# Altium footprint library con-3m.PCBLIB: 62 footprints (part 3 of 6)
Each footprint in its own frame and in the unit in brackets; x right, y up, seen from the top. Pads: shape width x height; smd on the part's side, far side on the other; paste and mask are expansions set on the pad; w line width, h text height; cw(c..) or ccw(c..) is an arc to the next point about the centre after c.
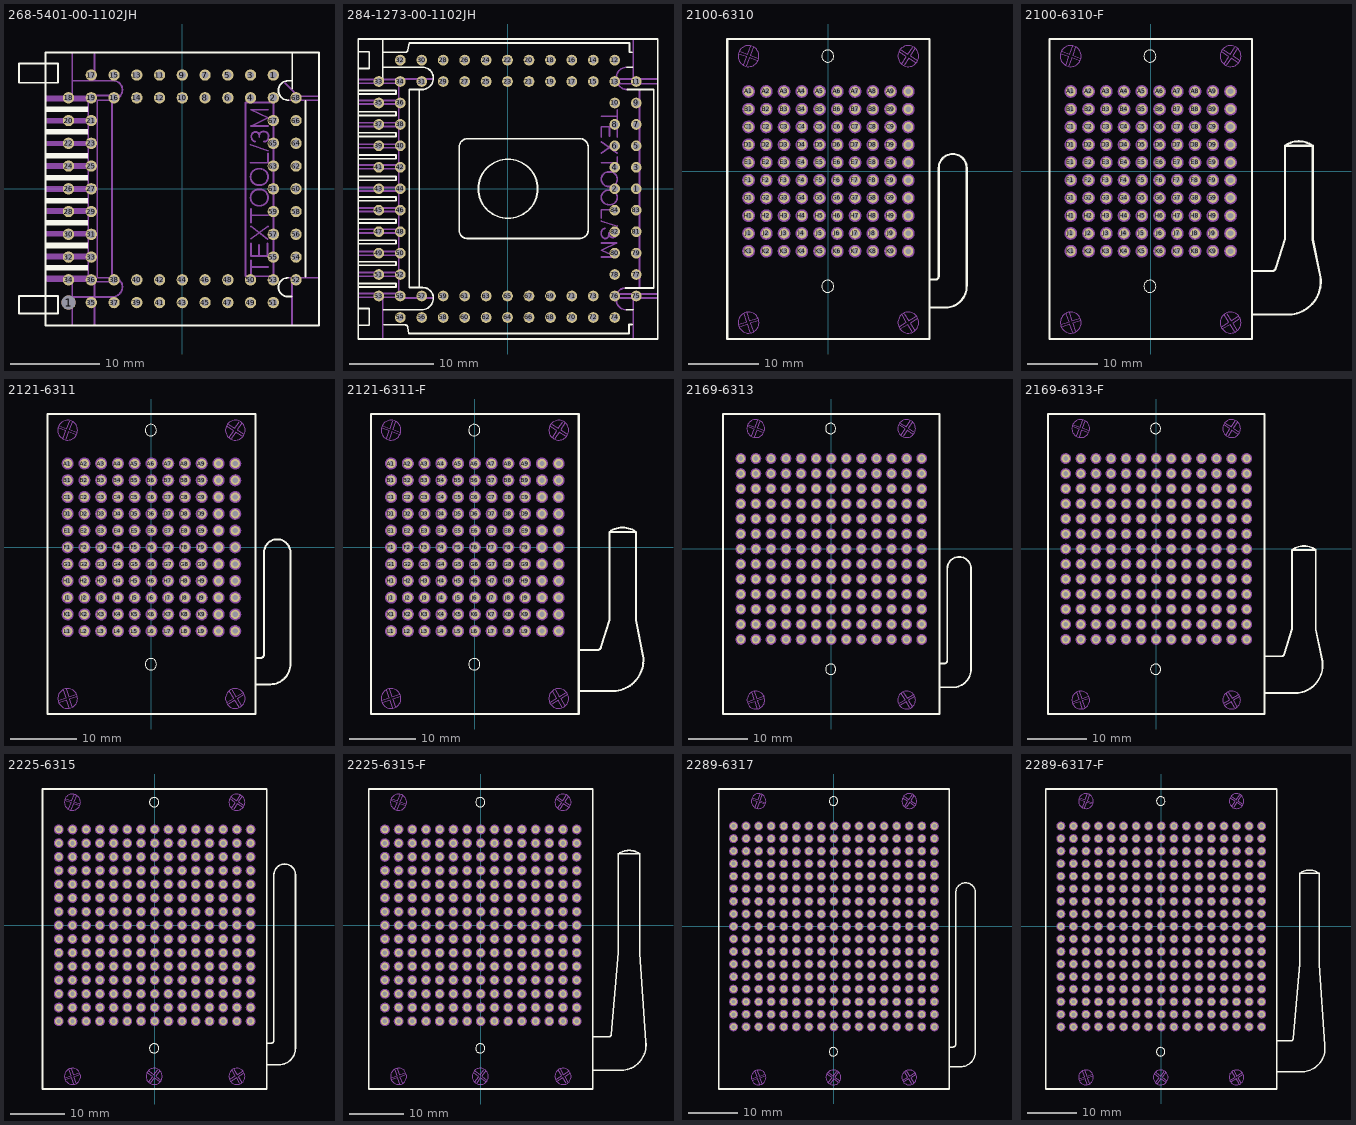
[diagram p2: the footprints below, top view; thin cyan lines are the x and y axes]

## 268-5401-00-1102JH [mil]
pads (69):
  round 62.99 hole 62.99: 1(-500,-500)
  round 50 hole 31.5: 1(400,500) 2(400,400) 3(300,500) 4(300,400) 5(200,500) 6(200,400) 7(100,500) 8(100,400) 9(0,500) 10(0,400) 11(-100,500) 12(-100,400) 13(-200,500) 14(-200,400) 15(-300,500) 16(-300,400) 17(-400,500) 18(-500,400) 19(-400,400) 20(-500,300) 21(-400,300) 22(-500,200) 23(-400,200) 24(-500,100) 25(-400,100) 26(-500,0) 27(-400,0) 28(-500,-100) 29(-400,-100) 30(-500,-200) 31(-400,-200) 32(-500,-300) 33(-400,-300) 34(-500,-400) 35(-400,-500) 36(-400,-400) 37(-300,-500) 38(-300,-400) 39(-200,-500) 40(-200,-400) 41(-100,-500) 42(-100,-400) 43(0,-500) 44(0,-400) 45(100,-500) 46(100,-400) 47(200,-500) 48(200,-400) 49(300,-500) 50(300,-400) 51(400,-500) 52(500,-400) 53(400,-400) 54(500,-300) 55(400,-300) 56(500,-200) 57(400,-200) 58(500,-100) 59(400,-100) 60(500,0) 61(400,0) 62(500,100) 63(400,100) 64(500,200) 65(400,200) 66(500,300) 67(400,300) 68(500,400)
Top Overlay:
  region: -415.41,-359.46 -415.41,-334.97 -599.08,-334.97 -599.08,-359.46
  region: -415.42,-261.5 -415.42,-235.26 -599.08,-235.26 -599.08,-261.5
  region: -415.41,-161.8 -415.41,-137.31 -599.08,-137.31 -599.08,-161.8
  region: -413.67,-63.85 -413.67,-39.37 -599.08,-39.36 -599.08,-63.85
  region: -415.41,35.85 -415.41,60.34 -599.08,60.34 -599.08,35.85
  region: -413.67,133.81 -413.67,158.29 -599.08,158.29 -599.08,133.81
  region: -415.41,238.75 -415.41,263.24 -597.32,263.24 -597.32,238.75
  region: -415.42,336.7 -415.42,361.19 -599.08,361.19 -599.08,336.7
  lines w8: -717.62,-472.44 -717.62,-548.36 -603.69,-548.36 ; -717.19,-472.44 -717.19,-471.4 -603.69,-471.4 ; -603.69,466.14 -717.19,466.14 -717.19,550.1 -603.69,550.1 ; -599.07,-471.4 -546.6,-471.4 -546.6,-548.36 -595.57,-548.36 ; -599.07,466.14 -546.6,466.14 -546.6,550.1 -599.07,550.1 ; 464.4,-390.94 ccw(c464.4,-432.92) 422.42,-432.92 ccw(c462.65,-432.92) 462.65,-473.15 480.14,-473.15 ; 466.15,389.18 cw(c466.15,432.91) 422.42,432.91 cw(c464.4,432.91) 464.4,474.89 481.89,474.89 ; 483.64,439.9 483.64,595.57 ; 541.36,-385.69 541.36,385.68 ; -600.82,-600.83 600.83,-600.83 600.83,599.07 -600.82,599.07 -600.82,-600.83
Mechanical 16:
  region: -415.42,-310.48 -415.42,-284.25 -599.08,-284.25 -599.08,-310.48
  region: -415.41,-209.03 -415.41,-184.53 -599.08,-184.53 -599.08,-209.03
  region: -413.67,-111.08 -413.67,-84.83 -597.32,-84.83 -597.32,-111.08
  region: -413.67,-13.13 -413.67,13.12 -599.08,13.12 -599.08,-13.12
  region: -415.42,86.58 -415.42,112.82 -599.08,112.82 -599.08,86.58
  region: -415.41,188.03 -415.41,210.76 -597.32,210.76 -597.32,188.03
  region: -415.42,285.99 -415.42,312.22 -597.32,312.22 -597.32,285.99
  region: -415.42,383.94 -415.42,410.17 -599.08,410.17 -599.08,383.94
  region: -417.17,-408.43 -417.17,-380.44 -599.08,-380.44 -599.08,-408.43
  lines w8: -597.32,406.67 -417.17,406.67 ; -595.57,-404.93 -417.17,-404.93 ; -483.63,-597.33 -483.63,-406.68 ; -483.63,406.67 -483.63,595.57 ; -481.88,-474.89 -306.97,-474.89 ccw(c-306.97,-431.16) -263.24,-431.17 ccw(c-303.47,-431.17) -303.47,-390.94 -373.44,-390.94 -373.44,389.18 -308.72,389.18 ccw(c-308.71,434.65) -263.24,434.65 ccw(c-303.48,434.65) -303.47,474.89 -480.13,474.89 ; -385.68,-597.33 -385.68,-410.18 ; -385.68,478.38 -385.68,593.83 ; -308.72,-387.44 -308.72,385.68 ; -275.48,-408.43 -413.67,-408.43 -413.67,410.17 -275.48,410.17 ; 299.98,114.56 376.94,114.56 376.94,156.54 ; 299.98,193.28 376.94,167.04 ; 301.73,-373.44 301.73,-343.71 ; 301.73,-313.98 301.73,-343.71 ; 301.73,-240.51 301.73,-294.73 375.19,-294.73 375.19,-240.51 ; 301.73,-219.52 376.94,-165.3 ; 301.73,-165.3 375.19,-221.27 ; 301.73,-147.81 301.73,-116.32 ; 301.73,-88.33 301.73,-116.32 ; 320.97,207.27 cw(c323.77,226.39) 308.73,214.26 cw(c327.55,229.45) 305.23,238.75 cw(c321.8,231.85) 326.22,249.25 cw(c322.22,233.51) 338.46,233.5 ; 336.71,-291.24 336.71,-247.51 ; 338.46,228.26 338.46,233.5 ; 359.45,207.27 ccw(c360.29,224.69) 376.94,219.51 ccw(c338.81,231.38) 378.69,233.5 ccw(c360.16,232.53) 368.2,249.25 ccw(c357.04,226) 350.7,251 ccw(c354.7,235.26) 338.46,235.25 338.46,233.5 ; 376.94,-343.71 301.73,-343.71 ; 376.94,-116.32 301.73,-116.32 ; 376.94,275.48 301.73,275.48 376.94,312.22 301.73,347.2 376.94,347.2 ; 450.41,466.14 509.87,406.67 597.33,406.67 ; 464.4,-390.94 595.59,-390.94 ; 466.15,389.18 597.33,389.18 ; 481.89,-597.33 481.89,-396.19 ; 277.24,-383.94 401.43,-383.94 401.43,378.68 277.24,378.68 277.24,-383.94 ; 334.96,-74.34 cw(c335.83,-38.48) 334.96,-2.63 341.96,-2.63 cw(c341.09,-38.48) 341.96,-74.34 334.96,-74.34 ; 334.96,16.61 cw(c335.83,52.47) 334.96,88.32 341.96,88.32 cw(c341.09,52.47) 341.96,16.61 334.96,16.61

## 284-1273-00-1102JH [mil]
pads (84):
  round 50 hole 31.5: 1(600,0) 2(500,0) 3(600,100) 4(500,100) 5(600,200) 6(500,200) 7(600,300) 8(500,300) 9(600,400) 10(500,400) 11(600,500) 12(500,600) 13(500,500) 14(400,600) 15(400,500) 16(300,600) 17(300,500) 18(200,600) 19(200,500) 20(100,600) 21(100,500) 22(0,600) 23(0,500) 24(-100,600) 25(-100,500) 26(-200,600) 27(-200,500) 28(-300,600) 29(-300,500) 30(-400,600) 31(-400,500) 32(-500,600) 33(-600,500) 34(-500,500) 35(-600,400) 36(-500,400) 37(-600,300) 38(-500,300) 39(-600,200) 40(-500,200) 41(-600,100) 42(-500,100) 43(-600,0) 44(-500,0) 45(-600,-100) 46(-500,-100) 47(-600,-200) 48(-500,-200) 49(-600,-300) 50(-500,-300) 51(-600,-400) 52(-500,-400) 53(-600,-500) 54(-500,-600) 55(-500,-500) 56(-400,-600) 57(-400,-500) 58(-300,-600) 59(-300,-500) 60(-200,-600) 61(-200,-500) 62(-100,-600) 63(-100,-500) 64(0,-600) 65(0,-500) 66(100,-600) 67(100,-500) 68(200,-600) 69(200,-500) 70(300,-600) 71(300,-500) 72(400,-600) 73(400,-500) 74(500,-600) 75(600,-500) 76(500,-500) 77(600,-400) 78(500,-400) 79(600,-300) 80(500,-300) 81(600,-200) 82(500,-200) 83(600,-100) 84(500,-100)
Top Overlay:
  circle w8: c2.12,0.01 r137.99
  lines w8: -694.12,-441.51 -520.06,-441.51 -520.06,-458.5 -692,-458.5 ; -694.12,-339.62 -520.06,-339.62 -520.06,-356.61 -692,-356.61 ; -694.12,-239.86 -520.06,-239.86 -520.06,-256.84 -692,-256.84 ; -694.12,-142.21 -520.06,-142.21 -520.06,-159.2 -692,-159.2 ; -694.12,-38.2 -520.06,-38.2 -520.06,-55.19 -692,-55.19 ; -694.12,57.32 -520.06,57.32 -520.06,40.33 -692,40.33 ; -694.12,157.08 -520.06,157.08 -520.06,140.1 -692,140.1 ; -694.12,261.09 -520.06,261.09 -520.06,244.11 -692,244.11 ; -694.12,358.74 -520.06,358.74 -520.06,341.76 -692,341.76 ; -694.12,458.5 -520.06,458.5 -520.06,441.52 -692,441.52 ; -692,-636.8 -645.3,-636.8 -645.3,-558.26 -692,-558.26 ; -692,560.39 -645.3,560.39 -645.3,638.93 -692,638.93 ; -581.62,511.57 -581.62,694.12 ; -579.5,-564.63 -401.19,-564.63 ccw(c-401.19,-509.44) -346,-509.44 ccw(c-394.82,-509.44) -394.82,-460.62 -458.5,-460.62 -458.5,462.75 -399.07,462.75 ccw(c-399.07,515.82) -346,515.82 ccw(c-396.94,515.82) -396.94,566.76 -579.5,566.76 ; -577.37,-634.68 -477.61,-634.68 cw(c-477.61,-647.41) -464.87,-647.41 -460.63,-675.01 566.75,-675.01 566.75,-632.56 581.61,-632.56 ; -577.37,636.81 -475.48,636.81 ccw(c-475.47,647.68) -464.87,645.3 -458.5,679.26 568.87,679.26 568.87,636.81 581.61,636.81 ; -520.06,492.46 -520.06,509.45 ; -411.8,-456.37 -411.8,460.63 ; 549.77,-462.74 681.37,-462.74 681.37,462.75 558.26,462.75 ; 554.02,-564.63 585.85,-564.63 ; 556.14,566.76 583.73,566.76 ; -696.24,-700.48 700.48,-700.48 700.48,698.37 -696.24,698.37 -696.24,-700.48 ; -225.01,-195.28 -225.01,195.29 cw(c-186.8,195.29) -186.8,233.5 337.5,233.5 cw(c337.5,195.29) 375.71,195.29 375.71,-193.16 cw(c337.5,-193.16) 337.5,-231.37 -188.92,-231.37 cw(c-188.92,-195.28) -225.01,-195.28
Mechanical 16:
  lines w8: -694.12,-488.21 -520.06,-488.21 -520.06,-505.19 -692,-505.19 ; -694.12,-390.57 -520.06,-390.57 -520.06,-407.55 -692,-407.55 ; -694.12,-292.93 -520.06,-292.93 -520.06,-309.91 -692,-309.91 ; -694.12,-188.91 -520.06,-188.91 -520.06,-205.9 -692,-205.9 ; -694.12,-89.15 -520.06,-89.15 -520.06,-106.13 -692,-106.13 ; -694.12,6.37 -520.06,6.37 -520.06,-10.61 -692,-10.61 ; -694.12,110.39 -520.06,110.39 -520.06,93.4 -692,93.4 ; -694.12,208.03 -520.06,208.03 -520.06,191.04 -692,191.04 ; -694.12,307.8 -520.06,307.8 -520.06,290.81 -692,290.81 ; -694.12,411.81 -520.06,411.81 -520.06,394.82 -692,394.82 ; -694.12,509.45 -520.06,509.45 ; -692,492.46 -520.06,492.46 ; -581.62,-696.23 -581.62,-509.44 ; -350.25,-509.44 -507.32,-509.44 -507.32,511.57 -350.25,511.57 ; 437.27,-318.4 509.44,-318.4 437.27,-286.56 509.44,-252.59 437.27,-252.59 ; 437.27,-150.7 511.56,-174.06 ; 437.27,-137.97 437.27,-97.64 511.56,-97.64 ; 437.27,121 509.44,121 ; 437.27,165.57 511.56,218.64 ; 437.27,218.64 511.56,165.57 ; 437.27,239.87 437.27,288.69 511.56,288.69 511.56,239.87 ; 437.27,337.51 509.44,337.51 ; 454.25,-184.67 ccw(c457.2,-204.51) 439.39,-195.28 ccw(c463.98,-208.02) 439.39,-220.76 ccw(c458.36,-210.94) 452.13,-231.37 ccw(c456.28,-217.79) 466.98,-227.12 ccw(c447.52,-210.13) 473.35,-210.14 ; 473.35,-205.89 473.35,-210.14 ; 475.48,246.24 475.48,284.44 ; 492.46,-188.91 cw(c486.81,-211.16) 505.19,-197.41 cw(c489.63,-209.09) 505.19,-220.76 cw(c491.05,-210.14) 486.09,-227.12 cw(c491.05,-210.13) 473.35,-210.14 ; 511.56,93.4 511.56,148.59 ; 511.56,309.91 511.56,367.23 ; 520.05,-500.95 ccw(c528.54,-500.95) 528.54,-509.44 696.23,-509.44 ; 520.05,-498.82 cw(c528.54,-498.82) 528.54,-490.33 696.23,-490.33 ; 549.77,-462.74 ccw(c549.77,-505.19) 507.32,-505.19 507.32,-517.93 ccw(c554.02,-517.93) 554.02,-564.63 ; 556.14,566.76 ccw(c556.14,517.94) 507.32,517.94 507.32,513.69 ccw(c558.26,513.69) 558.26,462.75 ; 585.85,-696.23 585.85,-513.69 ; 585.85,515.82 585.85,694.12 ; 615.57,-458.49 615.57,458.5 ; 696.23,511.57 528.54,511.57 ccw(c528.54,503.08) 520.05,503.08 520.05,498.83 ccw(c528.54,498.83) 528.54,490.34 698.36,490.34 ; 471.23,-74.29 cw(c471.23,-40.33) 471.23,-6.37 477.6,-6.37 cw(c477.6,-40.33) 477.6,-74.29 471.23,-74.29 ; 471.23,10.62 cw(c471.23,44.58) 471.23,78.54 477.6,78.54 cw(c477.6,44.58) 477.6,10.62 471.23,10.62

## 2100-6310 [mil]
pads (100):
  round 55.12 hole 31.5: A1(-450,450) A2(-350,450) A3(-250,450) A4(-150,450) A5(-50,450) A6(50,450) A7(150,450) A8(250,450) A9(350,450) A10(450,450) B1(-450,350) B2(-350,350) B3(-250,350) B4(-150,350) B5(-50,350) B6(50,350) B7(150,350) B8(250,350) B9(350,350) B10(450,350) C1(-450,250) C2(-350,250) C3(-250,250) C4(-150,250) C5(-50,250) C6(50,250) C7(150,250) C8(250,250) C9(350,250) C10(450,250) D1(-450,150) D2(-350,150) D3(-250,150) D4(-150,150) D5(-50,150) D6(50,150) D7(150,150) D8(250,150) D9(350,150) D10(450,150) E1(-450,50) E2(-350,50) E3(-250,50) E4(-150,50) E5(-50,50) E6(50,50) E7(150,50) E8(250,50) E9(350,50) E10(450,50) F1(-450,-50) F2(-350,-50) F3(-250,-50) F4(-150,-50) F5(-50,-50) F6(50,-50) F7(150,-50) F8(250,-50) F9(350,-50) F10(450,-50) G1(-450,-150) G2(-350,-150) G3(-250,-150) G4(-150,-150) G5(-50,-150) G6(50,-150) G7(150,-150) G8(250,-150) G9(350,-150) G10(450,-150) H1(-450,-250) H2(-350,-250) H3(-250,-250) H4(-150,-250) H5(-50,-250) H6(50,-250) H7(150,-250) H8(250,-250) H9(350,-250) H10(450,-250) J1(-450,-350) J2(-350,-350) J3(-250,-350) J4(-150,-350) J5(-50,-350) J6(50,-350) J7(150,-350) J8(250,-350) J9(350,-350) J10(450,-350) K1(-450,-450) K2(-350,-450) K3(-250,-450) K4(-150,-450) K5(-50,-450) K6(50,-450) K7(150,-450) K8(250,-450) K9(350,-450) K10(450,-450)
Top Overlay:
  circle w4: c-3.94,649.23 r34.01
  circle w4: c-3.94,-647.82 r34.01
  lines w12: 571.69,-767.52 660.83,-767.52 ccw(c658.76,-647.35) 778.94,-645.28 778.94,18.9 ccw(c700.2,18.9) 700.2,97.64 ccw(c700.2,18.9) 621.46,18.9 621.46,-590.35 cw(c601.77,-590.35) 601.77,-610.04 571.69,-610.04 ; -569.88,-944.69 569.88,-944.69 569.88,745.47 -569.88,745.47 -569.88,-944.69
Mechanical 16:
  circle w12: c-450,450 r30
  circle w12: c-450,350 r30
  circle w12: c-450,250 r30
  circle w12: c-450,150 r30
  circle w12: c-450,50 r30
  circle w12: c-450,-50 r30
  circle w12: c-450,-150 r30
  circle w12: c-450,-250 r30
  circle w12: c-450,-350 r30
  circle w12: c-450,-450 r30
  circle w12: c-350,450 r30
  circle w12: c-350,350 r30
  circle w12: c-350,250 r30
  circle w12: c-350,150 r30
  circle w12: c-350,50 r30
  circle w12: c-350,-50 r30
  circle w12: c-350,-150 r30
  circle w12: c-350,-250 r30
  circle w12: c-350,-350 r30
  circle w12: c-350,-450 r30
  circle w12: c-250,450 r30
  circle w12: c-250,350 r30
  circle w12: c-250,250 r30
  circle w12: c-250,150 r30
  circle w12: c-250,50 r30
  circle w12: c-250,-50 r30
  circle w12: c-250,-150 r30
  circle w12: c-250,-250 r30
  circle w12: c-250,-350 r30
  circle w12: c-250,-450 r30
  circle w12: c-150,450 r30
  circle w12: c-150,350 r30
  circle w12: c-150,250 r30
  circle w12: c-150,150 r30
  circle w12: c-150,50 r30
  circle w12: c-150,-50 r30
  circle w12: c-150,-150 r30
  circle w12: c-150,-250 r30
  circle w12: c-150,-350 r30
  circle w12: c-150,-450 r30
  circle w12: c-50,450 r30
  circle w12: c-50,350 r30
  circle w12: c-50,250 r30
  circle w12: c-50,150 r30
  circle w12: c-50,50 r30
  circle w12: c-50,-50 r30
  circle w12: c-50,-150 r30
  circle w12: c-50,-250 r30
  circle w12: c-50,-350 r30
  circle w12: c-50,-450 r30
  circle w12: c50,450 r30
  circle w12: c50,350 r30
  circle w12: c50,250 r30
  circle w12: c50,150 r30
  circle w12: c50,50 r30
  circle w12: c50,-50 r30
  circle w12: c50,-150 r30
  circle w12: c50,-250 r30
  circle w12: c50,-350 r30
  circle w12: c50,-450 r30
  circle w12: c150,450 r30
  circle w12: c150,350 r30
  circle w12: c150,250 r30
  circle w12: c150,150 r30
  circle w12: c150,50 r30
  circle w12: c150,-50 r30
  circle w12: c150,-150 r30
  circle w12: c150,-250 r30
  circle w12: c150,-350 r30
  circle w12: c150,-450 r30
  circle w12: c250,450 r30
  circle w12: c250,350 r30
  circle w12: c250,250 r30
  circle w12: c250,150 r30
  circle w12: c250,50 r30
  circle w12: c250,-50 r30
  circle w12: c250,-150 r30
  circle w12: c250,-250 r30
  circle w12: c250,-350 r30
  circle w12: c250,-450 r30
  circle w12: c350,450 r30
  circle w12: c350,350 r30
  circle w12: c350,250 r30
  circle w12: c350,150 r30
  circle w12: c350,50 r30
  circle w12: c350,-50 r30
  circle w12: c350,-150 r30
  circle w12: c350,-250 r30
  circle w12: c350,-350 r30
  circle w12: c350,-450 r30
  circle w12: c450,450 r30
  circle w12: c450,350 r30
  circle w12: c450,250 r30
  circle w12: c450,150 r30
  circle w12: c450,50 r30
  circle w12: c450,-50 r30
  circle w12: c450,-150 r30
  circle w12: c450,-250 r30
  circle w12: c450,-350 r30
  circle w12: c450,-450 r30
  circle w4: c-450,-852.36 r59.06
  circle w4: c450.39,-852.36 r59.06
  circle w4: c-450.39,648.82 r59.06
  circle w4: c450.39,648.82 r59.06
  lines w4: -504.83,660.46 -460.5,644.15 -476.82,599.81 ; -504.77,-862.38 -459.96,-847.39 -474.95,-802.59 ; -499.77,-877.32 -454.97,-862.33 -439.98,-907.13 ; -499.4,675.24 -455.06,658.93 -438.75,703.26 ; -462.04,594.37 -445.72,638.71 -401.38,622.4 ; -460.02,-797.59 -445.03,-842.39 -400.23,-827.41 ; -425.04,-902.13 -440.03,-857.33 -395.23,-842.34 ; -423.97,697.83 -440.28,653.49 -395.95,637.18 ; 399.24,-874.35 439.57,-849.74 414.96,-809.42 ; 400.04,672.59 439.48,646.58 413.48,607.14 ; 407.45,-887.8 447.77,-863.18 472.39,-903.51 ; 408.71,685.74 448.15,659.73 474.16,699.17 ; 426.63,598.47 452.63,637.91 492.07,611.9 ; 428.4,-801.21 453.01,-841.53 493.33,-816.92 ; 485.83,-895.3 461.22,-854.98 501.54,-830.36 ; 487.31,690.5 461.3,651.06 500.74,625.05

## 2100-6310-F [mil]
pads (100):
  round 55.12 hole 31.5: A1(-450,450) A2(-350,450) A3(-250,450) A4(-150,450) A5(-50,450) A6(50,450) A7(150,450) A8(250,450) A9(350,450) A10(450,450) B1(-450,350) B2(-350,350) B3(-250,350) B4(-150,350) B5(-50,350) B6(50,350) B7(150,350) B8(250,350) B9(350,350) B10(450,350) C1(-450,250) C2(-350,250) C3(-250,250) C4(-150,250) C5(-50,250) C6(50,250) C7(150,250) C8(250,250) C9(350,250) C10(450,250) D1(-450,150) D2(-350,150) D3(-250,150) D4(-150,150) D5(-50,150) D6(50,150) D7(150,150) D8(250,150) D9(350,150) D10(450,150) E1(-450,50) E2(-350,50) E3(-250,50) E4(-150,50) E5(-50,50) E6(50,50) E7(150,50) E8(250,50) E9(350,50) E10(450,50) F1(-450,-50) F2(-350,-50) F3(-250,-50) F4(-150,-50) F5(-50,-50) F6(50,-50) F7(150,-50) F8(250,-50) F9(350,-50) F10(450,-50) G1(-450,-150) G2(-350,-150) G3(-250,-150) G4(-150,-150) G5(-50,-150) G6(50,-150) G7(150,-150) G8(250,-150) G9(350,-150) G10(450,-150) H1(-450,-250) H2(-350,-250) H3(-250,-250) H4(-150,-250) H5(-50,-250) H6(50,-250) H7(150,-250) H8(250,-250) H9(350,-250) H10(450,-250) J1(-450,-350) J2(-350,-350) J3(-250,-350) J4(-150,-350) J5(-50,-350) J6(50,-350) J7(150,-350) J8(250,-350) J9(350,-350) J10(450,-350) K1(-450,-450) K2(-350,-450) K3(-250,-450) K4(-150,-450) K5(-50,-450) K6(50,-450) K7(150,-450) K8(250,-450) K9(350,-450) K10(450,-450)
Top Overlay:
  circle w4: c-3.94,649.23 r34.01
  circle w4: c-3.94,-647.82 r34.01
  lines w12: 572.68,-805.91 795.67,-805.91 ccw(c772.04,-620.87) 957.09,-597.24 913.39,-383.86 913.39,143.7 ; 576.61,-561.81 685.43,-561.81 ccw(c685.43,-542.12) 705.12,-542.13 755.91,-381.89 755.91,143.7 ; 755.91,143.7 913.39,143.7 ; 755.91,143.7 cw(c834.65,36.04) 913.39,143.7 ; -569.88,-944.69 569.88,-944.69 569.88,745.47 -569.88,745.47 -569.88,-944.69
Mechanical 16:
  circle w12: c-450,450 r30
  circle w12: c-450,350 r30
  circle w12: c-450,250 r30
  circle w12: c-450,150 r30
  circle w12: c-450,50 r30
  circle w12: c-450,-50 r30
  circle w12: c-450,-150 r30
  circle w12: c-450,-250 r30
  circle w12: c-450,-350 r30
  circle w12: c-450,-450 r30
  circle w12: c-350,450 r30
  circle w12: c-350,350 r30
  circle w12: c-350,250 r30
  circle w12: c-350,150 r30
  circle w12: c-350,50 r30
  circle w12: c-350,-50 r30
  circle w12: c-350,-150 r30
  circle w12: c-350,-250 r30
  circle w12: c-350,-350 r30
  circle w12: c-350,-450 r30
  circle w12: c-250,450 r30
  circle w12: c-250,350 r30
  circle w12: c-250,250 r30
  circle w12: c-250,150 r30
  circle w12: c-250,50 r30
  circle w12: c-250,-50 r30
  circle w12: c-250,-150 r30
  circle w12: c-250,-250 r30
  circle w12: c-250,-350 r30
  circle w12: c-250,-450 r30
  circle w12: c-150,450 r30
  circle w12: c-150,350 r30
  circle w12: c-150,250 r30
  circle w12: c-150,150 r30
  circle w12: c-150,50 r30
  circle w12: c-150,-50 r30
  circle w12: c-150,-150 r30
  circle w12: c-150,-250 r30
  circle w12: c-150,-350 r30
  circle w12: c-150,-450 r30
  circle w12: c-50,450 r30
  circle w12: c-50,350 r30
  circle w12: c-50,250 r30
  circle w12: c-50,150 r30
  circle w12: c-50,50 r30
  circle w12: c-50,-50 r30
  circle w12: c-50,-150 r30
  circle w12: c-50,-250 r30
  circle w12: c-50,-350 r30
  circle w12: c-50,-450 r30
  circle w12: c50,450 r30
  circle w12: c50,350 r30
  circle w12: c50,250 r30
  circle w12: c50,150 r30
  circle w12: c50,50 r30
  circle w12: c50,-50 r30
  circle w12: c50,-150 r30
  circle w12: c50,-250 r30
  circle w12: c50,-350 r30
  circle w12: c50,-450 r30
  circle w12: c150,450 r30
  circle w12: c150,350 r30
  circle w12: c150,250 r30
  circle w12: c150,150 r30
  circle w12: c150,50 r30
  circle w12: c150,-50 r30
  circle w12: c150,-150 r30
  circle w12: c150,-250 r30
  circle w12: c150,-350 r30
  circle w12: c150,-450 r30
  circle w12: c250,450 r30
  circle w12: c250,350 r30
  circle w12: c250,250 r30
  circle w12: c250,150 r30
  circle w12: c250,50 r30
  circle w12: c250,-50 r30
  circle w12: c250,-150 r30
  circle w12: c250,-250 r30
  circle w12: c250,-350 r30
  circle w12: c250,-450 r30
  circle w12: c350,450 r30
  circle w12: c350,350 r30
  circle w12: c350,250 r30
  circle w12: c350,150 r30
  circle w12: c350,50 r30
  circle w12: c350,-50 r30
  circle w12: c350,-150 r30
  circle w12: c350,-250 r30
  circle w12: c350,-350 r30
  circle w12: c350,-450 r30
  circle w12: c450,450 r30
  circle w12: c450,350 r30
  circle w12: c450,250 r30
  circle w12: c450,150 r30
  circle w12: c450,50 r30
  circle w12: c450,-50 r30
  circle w12: c450,-150 r30
  circle w12: c450,-250 r30
  circle w12: c450,-350 r30
  circle w12: c450,-450 r30
  circle w4: c-450,-852.36 r59.06
  circle w4: c450.39,-852.36 r59.06
  circle w4: c-450.39,648.82 r59.06
  circle w4: c450.39,648.82 r59.06
  lines w4: -504.83,660.46 -460.5,644.15 -476.82,599.81 ; -504.77,-862.38 -459.96,-847.39 -474.95,-802.59 ; -499.77,-877.32 -454.97,-862.33 -439.98,-907.13 ; -499.4,675.24 -455.06,658.93 -438.75,703.26 ; -462.04,594.37 -445.72,638.71 -401.38,622.4 ; -460.02,-797.59 -445.03,-842.39 -400.23,-827.41 ; -425.04,-902.13 -440.03,-857.33 -395.23,-842.34 ; -423.97,697.83 -440.28,653.49 -395.95,637.18 ; 399.24,-874.35 439.57,-849.74 414.96,-809.42 ; 400.04,672.59 439.48,646.58 413.48,607.14 ; 407.45,-887.8 447.77,-863.18 472.39,-903.51 ; 408.71,685.74 448.15,659.73 474.16,699.17 ; 426.63,598.47 452.63,637.91 492.07,611.9 ; 428.4,-801.21 453.01,-841.53 493.33,-816.92 ; 485.83,-895.3 461.22,-854.98 501.54,-830.36 ; 487.31,690.5 461.3,651.06 500.74,625.05

## 2121-6311 [mil]
pads (121):
  round 55.12 hole 31.5: A1(-500,500) A2(-400,500) A3(-300,500) A4(-200,500) A5(-100,500) A6(0,500) A7(100,500) A8(200,500) A9(300,500) A10(400,500) A11(500,500) B1(-500,400) B2(-400,400) B3(-300,400) B4(-200,400) B5(-100,400) B6(0,400) B7(100,400) B8(200,400) B9(300,400) B10(400,400) B11(500,400) C1(-500,300) C2(-400,300) C3(-300,300) C4(-200,300) C5(-100,300) C6(0,300) C7(100,300) C8(200,300) C9(300,300) C10(400,300) C11(500,300) D1(-500,200) D2(-400,200) D3(-300,200) D4(-200,200) D5(-100,200) D6(0,200) D7(100,200) D8(200,200) D9(300,200) D10(400,200) D11(500,200) E1(-500,100) E2(-400,100) E3(-300,100) E4(-200,100) E5(-100,100) E6(0,100) E7(100,100) E8(200,100) E9(300,100) E10(400,100) E11(500,100) F1(-500,0) F2(-400,0) F3(-300,0) F4(-200,0) F5(-100,0) F6(0,0) F7(100,0) F8(200,0) F9(300,0) F10(400,0) F11(500,0) G1(-500,-100) G2(-400,-100) G3(-300,-100) G4(-200,-100) G5(-100,-100) G6(0,-100) G7(100,-100) G8(200,-100) G9(300,-100) G10(400,-100) G11(500,-100) H1(-500,-200) H2(-400,-200) H3(-300,-200) H4(-200,-200) H5(-100,-200) H6(0,-200) H7(100,-200) H8(200,-200) H9(300,-200) H10(400,-200) H11(500,-200) J1(-500,-300) J2(-400,-300) J3(-300,-300) J4(-200,-300) J5(-100,-300) J6(0,-300) J7(100,-300) J8(200,-300) J9(300,-300) J10(400,-300) J11(500,-300) K1(-500,-400) K2(-400,-400) K3(-300,-400) K4(-200,-400) K5(-100,-400) K6(0,-400) K7(100,-400) K8(200,-400) K9(300,-400) K10(400,-400) K11(500,-400) L1(-500,-500) L2(-400,-500) L3(-300,-500) L4(-200,-500) L5(-100,-500) L6(0,-500) L7(100,-500) L8(200,-500) L9(300,-500) L10(400,-500) L11(500,-500)
Top Overlay:
  circle w4: c-3.94,699.23 r34.01
  circle w4: c-3.94,-697.82 r34.01
  lines w12: 621.69,-817.52 710.83,-817.52 ccw(c708.76,-697.35) 828.94,-695.28 828.94,-31.1 ccw(c750.2,-31.1) 750.2,47.64 ccw(c750.2,-31.1) 671.46,-31.1 671.46,-640.35 cw(c651.77,-640.35) 651.77,-660.04 621.69,-660.04 ; -619.88,-994.69 619.88,-994.69 619.88,795.47 -619.88,795.47 -619.88,-994.69
Mechanical 16:
  drawing of 157 lines, arcs and shapes, not listed

## 2121-6311-F [mil]
pads (121):
  round 55.12 hole 31.5: A1(-500,500) A2(-400,500) A3(-300,500) A4(-200,500) A5(-100,500) A6(0,500) A7(100,500) A8(200,500) A9(300,500) A10(400,500) A11(500,500) B1(-500,400) B2(-400,400) B3(-300,400) B4(-200,400) B5(-100,400) B6(0,400) B7(100,400) B8(200,400) B9(300,400) B10(400,400) B11(500,400) C1(-500,300) C2(-400,300) C3(-300,300) C4(-200,300) C5(-100,300) C6(0,300) C7(100,300) C8(200,300) C9(300,300) C10(400,300) C11(500,300) D1(-500,200) D2(-400,200) D3(-300,200) D4(-200,200) D5(-100,200) D6(0,200) D7(100,200) D8(200,200) D9(300,200) D10(400,200) D11(500,200) E1(-500,100) E2(-400,100) E3(-300,100) E4(-200,100) E5(-100,100) E6(0,100) E7(100,100) E8(200,100) E9(300,100) E10(400,100) E11(500,100) F1(-500,0) F2(-400,0) F3(-300,0) F4(-200,0) F5(-100,0) F6(0,0) F7(100,0) F8(200,0) F9(300,0) F10(400,0) F11(500,0) G1(-500,-100) G2(-400,-100) G3(-300,-100) G4(-200,-100) G5(-100,-100) G6(0,-100) G7(100,-100) G8(200,-100) G9(300,-100) G10(400,-100) G11(500,-100) H1(-500,-200) H2(-400,-200) H3(-300,-200) H4(-200,-200) H5(-100,-200) H6(0,-200) H7(100,-200) H8(200,-200) H9(300,-200) H10(400,-200) H11(500,-200) J1(-500,-300) J2(-400,-300) J3(-300,-300) J4(-200,-300) J5(-100,-300) J6(0,-300) J7(100,-300) J8(200,-300) J9(300,-300) J10(400,-300) J11(500,-300) K1(-500,-400) K2(-400,-400) K3(-300,-400) K4(-200,-400) K5(-100,-400) K6(0,-400) K7(100,-400) K8(200,-400) K9(300,-400) K10(400,-400) K11(500,-400) L1(-500,-500) L2(-400,-500) L3(-300,-500) L4(-200,-500) L5(-100,-500) L6(0,-500) L7(100,-500) L8(200,-500) L9(300,-500) L10(400,-500) L11(500,-500)
Top Overlay:
  circle w4: c-3.94,699.23 r34.01
  circle w4: c-3.94,-697.82 r34.01
  lines w12: 619.92,-857.09 842.91,-857.09 ccw(c819.29,-672.05) 1004.33,-648.43 960.63,-435.04 960.63,92.52 ; 623.86,-612.99 732.68,-612.99 ccw(c732.68,-593.31) 752.36,-593.31 803.15,-433.07 803.15,92.52 ; 803.15,92.52 960.63,92.52 ; 803.15,92.52 cw(c881.89,-15.14) 960.63,92.52 ; -619.88,-994.69 619.88,-994.69 619.88,795.47 -619.88,795.47 -619.88,-994.69
Mechanical 16:
  drawing of 157 lines, arcs and shapes, not listed

## 2169-6313 [mil]
pads (169):
  round 55.12 hole 31.5: A1(-600,600) A2(-500,600) A3(-400,600) A4(-300,600) A5(-200,600) A6(-100,600) A7(0,600) A8(100,600) A9(200,600) A10(300,600) A11(400,600) A12(500,600) A13(600,600) B1(-600,500) B2(-500,500) B3(-400,500) B4(-300,500) B5(-200,500) B6(-100,500) B7(0,500) B8(100,500) B9(200,500) B10(300,500) B11(400,500) B12(500,500) B13(600,500) C1(-600,400) C2(-500,400) C3(-400,400) C4(-300,400) C5(-200,400) C6(-100,400) C7(0,400) C8(100,400) C9(200,400) C10(300,400) C11(400,400) C12(500,400) C13(600,400) D1(-600,300) D2(-500,300) D3(-400,300) D4(-300,300) D5(-200,300) D6(-100,300) D7(0,300) D8(100,300) D9(200,300) D10(300,300) D11(400,300) D12(500,300) D13(600,300) E1(-600,200) E2(-500,200) E3(-400,200) E4(-300,200) E5(-200,200) E6(-100,200) E7(0,200) E8(100,200) E9(200,200) E10(300,200) E11(400,200) E12(500,200) E13(600,200) F1(-600,100) F2(-500,100) F3(-400,100) F4(-300,100) F5(-200,100) F6(-100,100) F7(0,100) F8(100,100) F9(200,100) F10(300,100) F11(400,100) F12(500,100) F13(600,100) G1(-600,0) G2(-500,0) G3(-400,0) G4(-300,0) G5(-200,0) G6(-100,0) G7(0,0) G8(100,0) G9(200,0) G10(300,0) G11(400,0) G12(500,0) G13(600,0) H1(-600,-100) H2(-500,-100) H3(-400,-100) H4(-300,-100) H5(-200,-100) H6(-100,-100) H7(0,-100) H8(100,-100) H9(200,-100) H10(300,-100) H11(400,-100) H12(500,-100) H13(600,-100) J1(-600,-200) J2(-500,-200) J3(-400,-200) J4(-300,-200) J5(-200,-200) J6(-100,-200) J7(0,-200) J8(100,-200) J9(200,-200) J10(300,-200) J11(400,-200) J12(500,-200) J13(600,-200) K1(-600,-300) K2(-500,-300) K3(-400,-300) K4(-300,-300) K5(-200,-300) K6(-100,-300) K7(0,-300) K8(100,-300) K9(200,-300) K10(300,-300) K11(400,-300) K12(500,-300) K13(600,-300) L1(-600,-400) L2(-500,-400) L3(-400,-400) L4(-300,-400) L5(-200,-400) L6(-100,-400) L7(0,-400) L8(100,-400) L9(200,-400) L10(300,-400) L11(400,-400) L12(500,-400) L13(600,-400) M1(-600,-500) M2(-500,-500) M3(-400,-500) M4(-300,-500) M5(-200,-500) M6(-100,-500) M7(0,-500) M8(100,-500) M9(200,-500) M10(300,-500) M11(400,-500) M12(500,-500) M13(600,-500) N1(-600,-600) N2(-500,-600) N3(-400,-600) N4(-300,-600) N5(-200,-600) N6(-100,-600) N7(0,-600) N8(100,-600) N9(200,-600) N10(300,-600) N11(400,-600) N12(500,-600) N13(600,-600)
Top Overlay:
  circle w4: c-3.94,799.23 r34.01
  circle w4: c-3.94,-797.82 r34.01
  lines w12: 720.12,-917.52 809.25,-917.52 ccw(c807.18,-797.35) 927.36,-795.28 927.36,-131.1 ccw(c848.62,-131.1) 848.62,-52.36 ccw(c848.62,-131.1) 769.88,-131.1 769.88,-740.35 cw(c750.2,-740.36) 750.2,-760.04 720.12,-760.04 ; -718.31,-1094.69 718.31,-1094.69 718.31,895.47 -718.31,895.47 -718.31,-1094.69
Mechanical 16:
  drawing of 205 lines, arcs and shapes, not listed

## 2169-6313-F [mil]
pads (169):
  round 55.12 hole 31.5: A1(-600,600) A2(-500,600) A3(-400,600) A4(-300,600) A5(-200,600) A6(-100,600) A7(0,600) A8(100,600) A9(200,600) A10(300,600) A11(400,600) A12(500,600) A13(600,600) B1(-600,500) B2(-500,500) B3(-400,500) B4(-300,500) B5(-200,500) B6(-100,500) B7(0,500) B8(100,500) B9(200,500) B10(300,500) B11(400,500) B12(500,500) B13(600,500) C1(-600,400) C2(-500,400) C3(-400,400) C4(-300,400) C5(-200,400) C6(-100,400) C7(0,400) C8(100,400) C9(200,400) C10(300,400) C11(400,400) C12(500,400) C13(600,400) D1(-600,300) D2(-500,300) D3(-400,300) D4(-300,300) D5(-200,300) D6(-100,300) D7(0,300) D8(100,300) D9(200,300) D10(300,300) D11(400,300) D12(500,300) D13(600,300) E1(-600,200) E2(-500,200) E3(-400,200) E4(-300,200) E5(-200,200) E6(-100,200) E7(0,200) E8(100,200) E9(200,200) E10(300,200) E11(400,200) E12(500,200) E13(600,200) F1(-600,100) F2(-500,100) F3(-400,100) F4(-300,100) F5(-200,100) F6(-100,100) F7(0,100) F8(100,100) F9(200,100) F10(300,100) F11(400,100) F12(500,100) F13(600,100) G1(-600,0) G2(-500,0) G3(-400,0) G4(-300,0) G5(-200,0) G6(-100,0) G7(0,0) G8(100,0) G9(200,0) G10(300,0) G11(400,0) G12(500,0) G13(600,0) H1(-600,-100) H2(-500,-100) H3(-400,-100) H4(-300,-100) H5(-200,-100) H6(-100,-100) H7(0,-100) H8(100,-100) H9(200,-100) H10(300,-100) H11(400,-100) H12(500,-100) H13(600,-100) J1(-600,-200) J2(-500,-200) J3(-400,-200) J4(-300,-200) J5(-200,-200) J6(-100,-200) J7(0,-200) J8(100,-200) J9(200,-200) J10(300,-200) J11(400,-200) J12(500,-200) J13(600,-200) K1(-600,-300) K2(-500,-300) K3(-400,-300) K4(-300,-300) K5(-200,-300) K6(-100,-300) K7(0,-300) K8(100,-300) K9(200,-300) K10(300,-300) K11(400,-300) K12(500,-300) K13(600,-300) L1(-600,-400) L2(-500,-400) L3(-400,-400) L4(-300,-400) L5(-200,-400) L6(-100,-400) L7(0,-400) L8(100,-400) L9(200,-400) L10(300,-400) L11(400,-400) L12(500,-400) L13(600,-400) M1(-600,-500) M2(-500,-500) M3(-400,-500) M4(-300,-500) M5(-200,-500) M6(-100,-500) M7(0,-500) M8(100,-500) M9(200,-500) M10(300,-500) M11(400,-500) M12(500,-500) M13(600,-500) N1(-600,-600) N2(-500,-600) N3(-400,-600) N4(-300,-600) N5(-200,-600) N6(-100,-600) N7(0,-600) N8(100,-600) N9(200,-600) N10(300,-600) N11(400,-600) N12(500,-600) N13(600,-600)
Top Overlay:
  circle w4: c-3.94,799.23 r34.01
  circle w4: c-3.94,-797.82 r34.01
  lines w12: 718.35,-955.51 941.34,-955.51 ccw(c917.72,-770.47) 1102.76,-746.85 1059.06,-533.46 1059.06,-5.91 ; 722.28,-711.42 831.1,-711.42 ccw(c831.1,-691.73) 850.79,-691.73 901.57,-531.5 901.57,-5.91 ; 901.57,-5.91 1059.06,-5.91 ; 901.57,-5.91 cw(c980.32,-113.58) 1059.06,-5.91 ; -718.31,-1094.69 718.31,-1094.69 718.31,895.47 -718.31,895.47 -718.31,-1094.69
Mechanical 16:
  drawing of 205 lines, arcs and shapes, not listed

## 2225-6315 [mil]
pads (225):
  round 55.12 hole 31.5: A1(-700,700) A2(-600,700) A3(-500,700) A4(-400,700) A5(-300,700) A6(-200,700) A7(-100,700) A8(0,700) A9(100,700) A10(200,700) A11(300,700) A12(400,700) A13(500,700) A14(600,700) A15(700,700) B1(-700,600) B2(-600,600) B3(-500,600) B4(-400,600) B5(-300,600) B6(-200,600) B7(-100,600) B8(0,600) B9(100,600) B10(200,600) B11(300,600) B12(400,600) B13(500,600) B14(600,600) B15(700,600) C1(-700,500) C2(-600,500) C3(-500,500) C4(-400,500) C5(-300,500) C6(-200,500) C7(-100,500) C8(0,500) C9(100,500) C10(200,500) C11(300,500) C12(400,500) C13(500,500) C14(600,500) C15(700,500) D1(-700,400) D2(-600,400) D3(-500,400) D4(-400,400) D5(-300,400) D6(-200,400) D7(-100,400) D8(0,400) D9(100,400) D10(200,400) D11(300,400) D12(400,400) D13(500,400) D14(600,400) D15(700,400) E1(-700,300) E2(-600,300) E3(-500,300) E4(-400,300) E5(-300,300) E6(-200,300) E7(-100,300) E8(0,300) E9(100,300) E10(200,300) E11(300,300) E12(400,300) E13(500,300) E14(600,300) E15(700,300) F1(-700,200) F2(-600,200) F3(-500,200) F4(-400,200) F5(-300,200) F6(-200,200) F7(-100,200) F8(0,200) F9(100,200) F10(200,200) F11(300,200) F12(400,200) F13(500,200) F14(600,200) F15(700,200) G1(-700,100) G2(-600,100) G3(-500,100) G4(-400,100) G5(-300,100) G6(-200,100) G7(-100,100) G8(0,100) G9(100,100) G10(200,100) G11(300,100) G12(400,100) G13(500,100) G14(600,100) G15(700,100) H1(-700,0) H2(-600,0) H3(-500,0) H4(-400,0) H5(-300,0) H6(-200,0) H7(-100,0) H8(0,0) H9(100,0) H10(200,0) H11(300,0) H12(400,0) H13(500,0) H14(600,0) H15(700,0) J1(-700,-100) J2(-600,-100) J3(-500,-100) J4(-400,-100) J5(-300,-100) J6(-200,-100) J7(-100,-100) J8(0,-100) J9(100,-100) J10(200,-100) J11(300,-100) J12(400,-100) J13(500,-100) J14(600,-100) J15(700,-100) K1(-700,-200) K2(-600,-200) K3(-500,-200) K4(-400,-200) K5(-300,-200) K6(-200,-200) K7(-100,-200) K8(0,-200) K9(100,-200) K10(200,-200) K11(300,-200) K12(400,-200) K13(500,-200) K14(600,-200) K15(700,-200) L1(-700,-300) L2(-600,-300) L3(-500,-300) L4(-400,-300) L5(-300,-300) L6(-200,-300) L7(-100,-300) L8(0,-300) L9(100,-300) L10(200,-300) L11(300,-300) L12(400,-300) L13(500,-300) L14(600,-300) L15(700,-300) M1(-700,-400) M2(-600,-400) M3(-500,-400) M4(-400,-400) M5(-300,-400) M6(-200,-400) M7(-100,-400) M8(0,-400) M9(100,-400) M10(200,-400) M11(300,-400) M12(400,-400) M13(500,-400) M14(600,-400) M15(700,-400) N1(-700,-500) N2(-600,-500) N3(-500,-500) N4(-400,-500) N5(-300,-500) N6(-200,-500) N7(-100,-500) N8(0,-500) N9(100,-500) N10(200,-500) N11(300,-500) N12(400,-500) N13(500,-500) N14(600,-500) N15(700,-500) P1(-700,-600) P2(-600,-600) P3(-500,-600) P4(-400,-600) P5(-300,-600) P6(-200,-600) P7(-100,-600) P8(0,-600) P9(100,-600) P10(200,-600) P11(300,-600) P12(400,-600) P13(500,-600) P14(600,-600) P15(700,-600) Q1(-700,-700) Q2(-600,-700) Q3(-500,-700) Q4(-400,-700) Q5(-300,-700) Q6(-200,-700) Q7(-100,-700) Q8(0,-700) Q9(100,-700) Q10(200,-700) Q11(300,-700) Q12(400,-700) Q13(500,-700) Q14(600,-700) Q15(700,-700)
Top Overlay:
  circle w4: c-3.94,899.23 r34.01
  circle w4: c-3.94,-897.82 r34.01
  lines w12: 820.51,-1017.52 909.65,-1017.52 ccw(c907.59,-897.35) 1027.76,-895.28 1027.76,368.9 ccw(c949.02,368.9) 949.02,447.64 ccw(c949.02,368.9) 870.28,368.9 870.28,-840.35 cw(c850.59,-840.35) 850.59,-860.04 820.51,-860.04 ; -818.7,-1194.69 818.7,-1194.69 818.7,995.47 -818.7,995.47 -818.7,-1194.69
Mechanical 16:
  drawing of 270 lines, arcs and shapes, not listed

## 2225-6315-F [mil]
pads (225):
  round 55.12 hole 31.5: A1(-700,700) A2(-600,700) A3(-500,700) A4(-400,700) A5(-300,700) A6(-200,700) A7(-100,700) A8(0,700) A9(100,700) A10(200,700) A11(300,700) A12(400,700) A13(500,700) A14(600,700) A15(700,700) B1(-700,600) B2(-600,600) B3(-500,600) B4(-400,600) B5(-300,600) B6(-200,600) B7(-100,600) B8(0,600) B9(100,600) B10(200,600) B11(300,600) B12(400,600) B13(500,600) B14(600,600) B15(700,600) C1(-700,500) C2(-600,500) C3(-500,500) C4(-400,500) C5(-300,500) C6(-200,500) C7(-100,500) C8(0,500) C9(100,500) C10(200,500) C11(300,500) C12(400,500) C13(500,500) C14(600,500) C15(700,500) D1(-700,400) D2(-600,400) D3(-500,400) D4(-400,400) D5(-300,400) D6(-200,400) D7(-100,400) D8(0,400) D9(100,400) D10(200,400) D11(300,400) D12(400,400) D13(500,400) D14(600,400) D15(700,400) E1(-700,300) E2(-600,300) E3(-500,300) E4(-400,300) E5(-300,300) E6(-200,300) E7(-100,300) E8(0,300) E9(100,300) E10(200,300) E11(300,300) E12(400,300) E13(500,300) E14(600,300) E15(700,300) F1(-700,200) F2(-600,200) F3(-500,200) F4(-400,200) F5(-300,200) F6(-200,200) F7(-100,200) F8(0,200) F9(100,200) F10(200,200) F11(300,200) F12(400,200) F13(500,200) F14(600,200) F15(700,200) G1(-700,100) G2(-600,100) G3(-500,100) G4(-400,100) G5(-300,100) G6(-200,100) G7(-100,100) G8(0,100) G9(100,100) G10(200,100) G11(300,100) G12(400,100) G13(500,100) G14(600,100) G15(700,100) H1(-700,0) H2(-600,0) H3(-500,0) H4(-400,0) H5(-300,0) H6(-200,0) H7(-100,0) H8(0,0) H9(100,0) H10(200,0) H11(300,0) H12(400,0) H13(500,0) H14(600,0) H15(700,0) J1(-700,-100) J2(-600,-100) J3(-500,-100) J4(-400,-100) J5(-300,-100) J6(-200,-100) J7(-100,-100) J8(0,-100) J9(100,-100) J10(200,-100) J11(300,-100) J12(400,-100) J13(500,-100) J14(600,-100) J15(700,-100) K1(-700,-200) K2(-600,-200) K3(-500,-200) K4(-400,-200) K5(-300,-200) K6(-200,-200) K7(-100,-200) K8(0,-200) K9(100,-200) K10(200,-200) K11(300,-200) K12(400,-200) K13(500,-200) K14(600,-200) K15(700,-200) L1(-700,-300) L2(-600,-300) L3(-500,-300) L4(-400,-300) L5(-300,-300) L6(-200,-300) L7(-100,-300) L8(0,-300) L9(100,-300) L10(200,-300) L11(300,-300) L12(400,-300) L13(500,-300) L14(600,-300) L15(700,-300) M1(-700,-400) M2(-600,-400) M3(-500,-400) M4(-400,-400) M5(-300,-400) M6(-200,-400) M7(-100,-400) M8(0,-400) M9(100,-400) M10(200,-400) M11(300,-400) M12(400,-400) M13(500,-400) M14(600,-400) M15(700,-400) N1(-700,-500) N2(-600,-500) N3(-500,-500) N4(-400,-500) N5(-300,-500) N6(-200,-500) N7(-100,-500) N8(0,-500) N9(100,-500) N10(200,-500) N11(300,-500) N12(400,-500) N13(500,-500) N14(600,-500) N15(700,-500) P1(-700,-600) P2(-600,-600) P3(-500,-600) P4(-400,-600) P5(-300,-600) P6(-200,-600) P7(-100,-600) P8(0,-600) P9(100,-600) P10(200,-600) P11(300,-600) P12(400,-600) P13(500,-600) P14(600,-600) P15(700,-600) Q1(-700,-700) Q2(-600,-700) Q3(-500,-700) Q4(-400,-700) Q5(-300,-700) Q6(-200,-700) Q7(-100,-700) Q8(0,-700) Q9(100,-700) Q10(200,-700) Q11(300,-700) Q12(400,-700) Q13(500,-700) Q14(600,-700) Q15(700,-700)
Top Overlay:
  circle w4: c-3.94,899.23 r34.01
  circle w4: c-3.94,-897.82 r34.01
  lines w12: 820.71,-1057.87 1043.7,-1057.87 ccw(c1020.08,-872.83) 1205.12,-849.21 1161.42,-202.76 1161.42,521.65 ; 824.65,-813.78 933.46,-813.78 ccw(c933.46,-794.09) 953.15,-794.09 1003.94,-200.79 1003.94,521.65 ; 1003.94,521.65 1161.42,521.65 ; 1003.94,521.65 cw(c1082.68,413.99) 1161.42,521.65 ; -818.7,-1194.69 818.7,-1194.69 818.7,995.47 -818.7,995.47 -818.7,-1194.69
Mechanical 16:
  drawing of 270 lines, arcs and shapes, not listed

## 2289-6317 [mil]
pads (289):
  round 55.12 hole 31.5: A1(-800,800) A2(-700,800) A3(-600,800) A4(-500,800) A5(-400,800) A6(-300,800) A7(-200,800) A8(-100,800) A9(0,800) A10(100,800) A11(200,800) A12(300,800) A13(400,800) A14(500,800) A15(600,800) A16(700,800) A17(800,800) B1(-800,700) B2(-700,700) B3(-600,700) B4(-500,700) B5(-400,700) B6(-300,700) B7(-200,700) B8(-100,700) B9(0,700) B10(100,700) B11(200,700) B12(300,700) B13(400,700) B14(500,700) B15(600,700) B16(700,700) B17(800,700) C1(-800,600) C2(-700,600) C3(-600,600) C4(-500,600) C5(-400,600) C6(-300,600) C7(-200,600) C8(-100,600) C9(0,600) C10(100,600) C11(200,600) C12(300,600) C13(400,600) C14(500,600) C15(600,600) C16(700,600) C17(800,600) D1(-800,500) D2(-700,500) D3(-600,500) D4(-500,500) D5(-400,500) D6(-300,500) D7(-200,500) D8(-100,500) D9(0,500) D10(100,500) D11(200,500) D12(300,500) D13(400,500) D14(500,500) D15(600,500) D16(700,500) D17(800,500) E1(-800,400) E2(-700,400) E3(-600,400) E4(-500,400) E5(-400,400) E6(-300,400) E7(-200,400) E8(-100,400) E9(0,400) E10(100,400) E11(200,400) E12(300,400) E13(400,400) E14(500,400) E15(600,400) E16(700,400) E17(800,400) F1(-800,300) F2(-700,300) F3(-600,300) F4(-500,300) F5(-400,300) F6(-300,300) F7(-200,300) F8(-100,300) F9(0,300) F10(100,300) F11(200,300) F12(300,300) F13(400,300) F14(500,300) F15(600,300) F16(700,300) F17(800,300) G1(-800,200) G2(-700,200) G3(-600,200) G4(-500,200) G5(-400,200) G6(-300,200) G7(-200,200) G8(-100,200) G9(0,200) G10(100,200) G11(200,200) G12(300,200) G13(400,200) G14(500,200) G15(600,200) G16(700,200) G17(800,200) H1(-800,100) H2(-700,100) H3(-600,100) H4(-500,100) H5(-400,100) H6(-300,100) H7(-200,100) H8(-100,100) H9(0,100) H10(100,100) H11(200,100) H12(300,100) H13(400,100) H14(500,100) H15(600,100) H16(700,100) H17(800,100) J1(-800,0) J2(-700,0) J3(-600,0) J4(-500,0) J5(-400,0) J6(-300,0) J7(-200,0) J8(-100,0) J9(0,0) J10(100,0) J11(200,0) J12(300,0) J13(400,0) J14(500,0) J15(600,0) J16(700,0) J17(800,0) K1(-800,-100) K2(-700,-100) K3(-600,-100) K4(-500,-100) K5(-400,-100) K6(-300,-100) K7(-200,-100) K8(-100,-100) K9(0,-100) K10(100,-100) K11(200,-100) K12(300,-100) K13(400,-100) K14(500,-100) K15(600,-100) K16(700,-100) K17(800,-100) L1(-800,-200) L2(-700,-200) L3(-600,-200) L4(-500,-200) L5(-400,-200) L6(-300,-200) L7(-200,-200) L8(-100,-200) L9(0,-200) L10(100,-200) L11(200,-200) L12(300,-200) L13(400,-200) L14(500,-200) L15(600,-200) L16(700,-200) L17(800,-200) M1(-800,-300) M2(-700,-300) M3(-600,-300) M4(-500,-300) M5(-400,-300) M6(-300,-300) M7(-200,-300) M8(-100,-300) M9(0,-300) M10(100,-300) M11(200,-300) M12(300,-300) M13(400,-300) M14(500,-300) M15(600,-300) M16(700,-300) M17(800,-300) N1(-800,-400) N2(-700,-400) N3(-600,-400) N4(-500,-400) N5(-400,-400) N6(-300,-400) N7(-200,-400) N8(-100,-400) N9(0,-400) N10(100,-400) N11(200,-400) N12(300,-400) N13(400,-400) N14(500,-400) N15(600,-400) N16(700,-400) N17(800,-400) P1(-800,-500) P2(-700,-500) P3(-600,-500) P4(-500,-500) P5(-400,-500) P6(-300,-500) P7(-200,-500) P8(-100,-500) P9(0,-500) P10(100,-500) P11(200,-500) P12(300,-500) P13(400,-500) P14(500,-500) P15(600,-500) P16(700,-500) P17(800,-500) Q1(-800,-600) Q2(-700,-600) Q3(-600,-600) Q4(-500,-600) Q5(-400,-600) Q6(-300,-600) Q7(-200,-600) Q8(-100,-600) Q9(0,-600) Q10(100,-600) Q11(200,-600) Q12(300,-600) Q13(400,-600) Q14(500,-600) Q15(600,-600) Q16(700,-600) Q17(800,-600) R1(-800,-700) R2(-700,-700) R3(-600,-700) R4(-500,-700) R5(-400,-700) R6(-300,-700) R7(-200,-700) R8(-100,-700) R9(0,-700) R10(100,-700) R11(200,-700) R12(300,-700) R13(400,-700) R14(500,-700) R15(600,-700) R16(700,-700) R17(800,-700) S1(-800,-800) S2(-700,-800) S3(-600,-800) S4(-500,-800) S5(-400,-800) S6(-300,-800) S7(-200,-800) S8(-100,-800) S9(0,-800) S10(100,-800) S11(200,-800) S12(300,-800) S13(400,-800) S14(500,-800) S15(600,-800) S16(700,-800) S17(800,-800)
Top Overlay:
  circle w4: c-3.94,999.23 r34.01
  circle w4: c-4.33,-998.61 r34.01
  lines w12: 920.51,-1118.31 1009.65,-1118.31 ccw(c1007.58,-998.13) 1127.76,-996.06 1128.15,268.9 ccw(c1049.41,268.9) 1049.41,347.64 ccw(c1049.41,268.9) 970.67,268.9 970.28,-941.14 cw(c950.59,-941.14) 950.59,-960.83 920.51,-960.83 ; -919.88,-1295.47 918.7,-1295.47 919.09,1095.47 -919.49,1095.47 -919.88,-1295.47
Mechanical 16:
  drawing of 334 lines, arcs and shapes, not listed

## 2289-6317-F [mil]
pads (289):
  round 55.12 hole 31.5: A1(-800,800) A2(-700,800) A3(-600,800) A4(-500,800) A5(-400,800) A6(-300,800) A7(-200,800) A8(-100,800) A9(0,800) A10(100,800) A11(200,800) A12(300,800) A13(400,800) A14(500,800) A15(600,800) A16(700,800) A17(800,800) B1(-800,700) B2(-700,700) B3(-600,700) B4(-500,700) B5(-400,700) B6(-300,700) B7(-200,700) B8(-100,700) B9(0,700) B10(100,700) B11(200,700) B12(300,700) B13(400,700) B14(500,700) B15(600,700) B16(700,700) B17(800,700) C1(-800,600) C2(-700,600) C3(-600,600) C4(-500,600) C5(-400,600) C6(-300,600) C7(-200,600) C8(-100,600) C9(0,600) C10(100,600) C11(200,600) C12(300,600) C13(400,600) C14(500,600) C15(600,600) C16(700,600) C17(800,600) D1(-800,500) D2(-700,500) D3(-600,500) D4(-500,500) D5(-400,500) D6(-300,500) D7(-200,500) D8(-100,500) D9(0,500) D10(100,500) D11(200,500) D12(300,500) D13(400,500) D14(500,500) D15(600,500) D16(700,500) D17(800,500) E1(-800,400) E2(-700,400) E3(-600,400) E4(-500,400) E5(-400,400) E6(-300,400) E7(-200,400) E8(-100,400) E9(0,400) E10(100,400) E11(200,400) E12(300,400) E13(400,400) E14(500,400) E15(600,400) E16(700,400) E17(800,400) F1(-800,300) F2(-700,300) F3(-600,300) F4(-500,300) F5(-400,300) F6(-300,300) F7(-200,300) F8(-100,300) F9(0,300) F10(100,300) F11(200,300) F12(300,300) F13(400,300) F14(500,300) F15(600,300) F16(700,300) F17(800,300) G1(-800,200) G2(-700,200) G3(-600,200) G4(-500,200) G5(-400,200) G6(-300,200) G7(-200,200) G8(-100,200) G9(0,200) G10(100,200) G11(200,200) G12(300,200) G13(400,200) G14(500,200) G15(600,200) G16(700,200) G17(800,200) H1(-800,100) H2(-700,100) H3(-600,100) H4(-500,100) H5(-400,100) H6(-300,100) H7(-200,100) H8(-100,100) H9(0,100) H10(100,100) H11(200,100) H12(300,100) H13(400,100) H14(500,100) H15(600,100) H16(700,100) H17(800,100) J1(-800,0) J2(-700,0) J3(-600,0) J4(-500,0) J5(-400,0) J6(-300,0) J7(-200,0) J8(-100,0) J9(0,0) J10(100,0) J11(200,0) J12(300,0) J13(400,0) J14(500,0) J15(600,0) J16(700,0) J17(800,0) K1(-800,-100) K2(-700,-100) K3(-600,-100) K4(-500,-100) K5(-400,-100) K6(-300,-100) K7(-200,-100) K8(-100,-100) K9(0,-100) K10(100,-100) K11(200,-100) K12(300,-100) K13(400,-100) K14(500,-100) K15(600,-100) K16(700,-100) K17(800,-100) L1(-800,-200) L2(-700,-200) L3(-600,-200) L4(-500,-200) L5(-400,-200) L6(-300,-200) L7(-200,-200) L8(-100,-200) L9(0,-200) L10(100,-200) L11(200,-200) L12(300,-200) L13(400,-200) L14(500,-200) L15(600,-200) L16(700,-200) L17(800,-200) M1(-800,-300) M2(-700,-300) M3(-600,-300) M4(-500,-300) M5(-400,-300) M6(-300,-300) M7(-200,-300) M8(-100,-300) M9(0,-300) M10(100,-300) M11(200,-300) M12(300,-300) M13(400,-300) M14(500,-300) M15(600,-300) M16(700,-300) M17(800,-300) N1(-800,-400) N2(-700,-400) N3(-600,-400) N4(-500,-400) N5(-400,-400) N6(-300,-400) N7(-200,-400) N8(-100,-400) N9(0,-400) N10(100,-400) N11(200,-400) N12(300,-400) N13(400,-400) N14(500,-400) N15(600,-400) N16(700,-400) N17(800,-400) P1(-800,-500) P2(-700,-500) P3(-600,-500) P4(-500,-500) P5(-400,-500) P6(-300,-500) P7(-200,-500) P8(-100,-500) P9(0,-500) P10(100,-500) P11(200,-500) P12(300,-500) P13(400,-500) P14(500,-500) P15(600,-500) P16(700,-500) P17(800,-500) Q1(-800,-600) Q2(-700,-600) Q3(-600,-600) Q4(-500,-600) Q5(-400,-600) Q6(-300,-600) Q7(-200,-600) Q8(-100,-600) Q9(0,-600) Q10(100,-600) Q11(200,-600) Q12(300,-600) Q13(400,-600) Q14(500,-600) Q15(600,-600) Q16(700,-600) Q17(800,-600) R1(-800,-700) R2(-700,-700) R3(-600,-700) R4(-500,-700) R5(-400,-700) R6(-300,-700) R7(-200,-700) R8(-100,-700) R9(0,-700) R10(100,-700) R11(200,-700) R12(300,-700) R13(400,-700) R14(500,-700) R15(600,-700) R16(700,-700) R17(800,-700) S1(-800,-800) S2(-700,-800) S3(-600,-800) S4(-500,-800) S5(-400,-800) S6(-300,-800) S7(-200,-800) S8(-100,-800) S9(0,-800) S10(100,-800) S11(200,-800) S12(300,-800) S13(400,-800) S14(500,-800) S15(600,-800) S16(700,-800) S17(800,-800)
Top Overlay:
  circle w4: c-3.94,999.23 r34.01
  circle w4: c-4.33,-998.61 r34.01
  lines w12: 919.13,-1156.3 1142.13,-1156.3 ccw(c1118.51,-971.26) 1303.54,-947.64 1259.84,-301.18 1259.84,423.23 ; 923.07,-912.2 1031.89,-912.2 ccw(c1031.89,-892.52) 1051.57,-892.52 1102.36,-299.21 1102.36,423.23 ; 1102.36,423.23 1259.84,423.23 ; 1102.36,423.23 cw(c1181.1,315.57) 1259.84,423.23 ; -919.88,-1295.47 919.09,-1295.47 919.09,1095.47 -919.49,1095.47 -919.88,-1295.47
Mechanical 16:
  drawing of 334 lines, arcs and shapes, not listed